# Altium footprint library B3AL-1003P.PcbLib: 1 footprints
Each footprint in its own frame and in the unit in brackets; x right, y up, seen from the top. Pads: shape width x height; smd on the part's side, far side on the other; paste and mask are expansions set on the pad; w line width, h text height; cw(c..) or ccw(c..) is an arc to the next point about the centre after c.
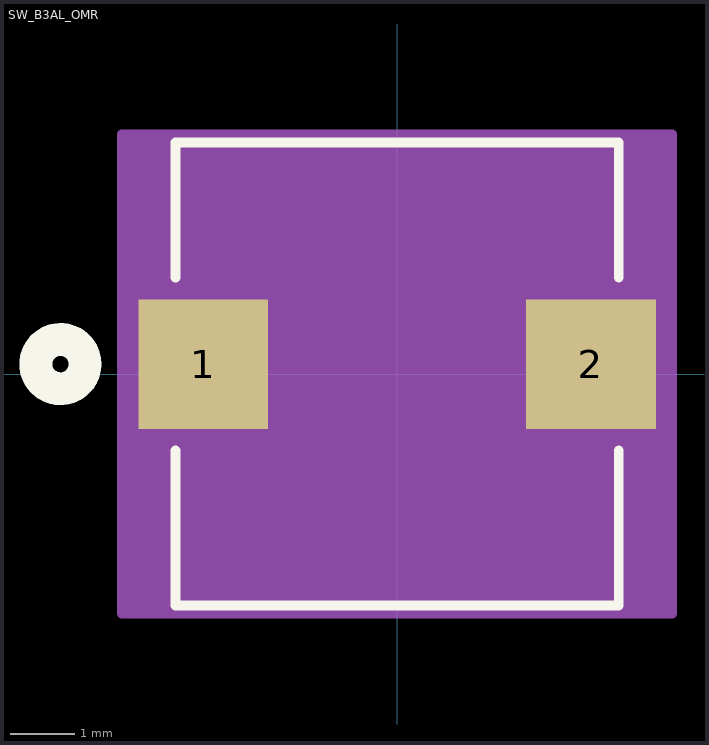
[diagram p0: the footprint, top view; thin cyan lines are the x and y axes]

## SW_B3AL_OMR [mil]
pads (2):
  rect 79x79 smd paste+0 mask+0: 1(-118,6) 2(118,6)
Top Overlay:
  circle w20: c-205,6 r15
  lines w6: -135,-46.6 -135,-141 135,-141 135,-46.6 ; -135,58.6 -135,141 135,141 135,58.6
Bottom Overlay:
  circle w20: c-205,6 r15
Mechanical 13:
  circle w20: c-118,81 r15
  lines w1: -130,-136 130,-136 130,136 -130,136 -130,-136
Mechanical 15:
  region: 167.5,146 -167.5,146 -167.5,-146 167.5,-146
  lines w6: -167.5,-146 -167.5,146 167.5,146 167.5,-146 -167.5,-146